# EAGLE library part LSM303DLH (library Compass)
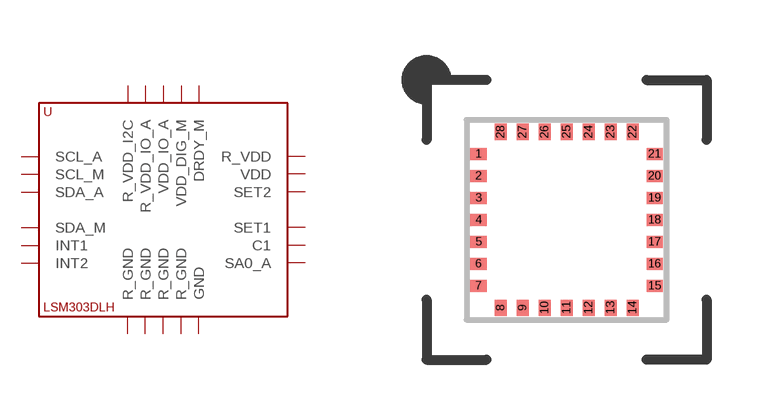
[diagram p0: symbol with the pads of LGA-28L(5X5X1); footprint LGA-28L(5X5X1)]

Designator prefix -

## LSM303DLH  [LGA-28L(5X5X1)]
1  R_GND  pwr
2  GND  pwr
3  R_GND  pwr
4  SA0_A  in
5  R_VDD_I2C  pwr
6  VDD  pwr
7  R_VDD  pwr
12  SET2  pas
15  C1  pas
16  SET1  pas
17  R_GND  pwr
18  DRDY_M
19  SDA_M
20  SCL_M
21  VDD_DIG_M  pwr
22  VDD_IO_A  pwr
23  R_VDD_IO_A  pwr
24  SCL_A
25  SDA_A
26  INT1  out
27  INT2  out
28  R_GND  pwr

## Footprint LGA-28L(5X5X1) (pad centres in mm)
STMicroelectronics LGA-28 (5x5x1) . This is the LGA-28 package as described in the LSM303DLH datasheet
smd 0.4 x 0.3: 1 -2.2,1.65; 2 -2.2,1.1; 3 -2.2,0.55; 4 -2.2,0; 5 -2.2,-0.55; 6 -2.2,-1.1; 7 -2.2,-1.65; 15 2.2,-1.65; 16 2.2,-1.1; 17 2.2,-0.55; 18 2.2,0; 19 2.2,0.55; 20 2.2,1.1; 21 2.2,1.65
smd 0.3 x 0.4: 8 -1.65,-2.2; 9 -1.1,-2.2; 10 -0.55,-2.2; 11 0,-2.2; 12 0.55,-2.2; 13 1.1,-2.2; 14 1.65,-2.2; 22 1.65,2.2; 23 1.1,2.2; 24 0.55,2.2; 25 0,2.2; 26 -0.55,2.2; 27 -1.1,2.2; 28 -1.65,2.2